# Altium footprint library Inductor.PcbLib: 1 footprints
Each footprint in its own frame and in the unit in brackets; x right, y up, seen from the top. Pads: shape width x height; smd on the part's side, far side on the other; paste and mask are expansions set on the pad; w line width, h text height; cw(c..) or ccw(c..) is an arc to the next point about the centre after c.
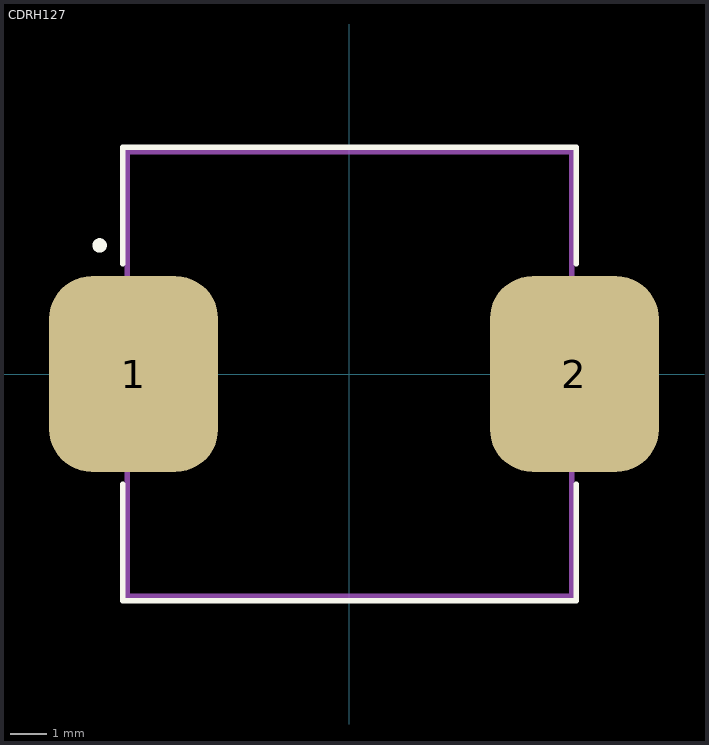
[diagram p0: the footprint, top view; thin cyan lines are the x and y axes]

## CDRH127 [mil]
pads (2):
  rrect50% 184x213 smd: 1(-235,0) 2(245,0)
Top Overlay:
  lines w6: -247,-120 -247,-247 247,-247 247,-120 ; -247,120 -247,247 247,247 247,120
  lines w7.87: -275.94,140 ccw(c-272,140) -268.06,140 ccw(c-272,140) -275.94,140
Mechanical 13:
  lines w0: -242,0 ccw(c-239,0) -236,0 ccw(c-239,0) -242,0
  lines w6: -242,-242 242,-242 242,242 -242,242 -242,0 -242,-242
3D body "step_temp.STEP": height 314.96, standoff 0, extent -236.22,-236.22 236.22,236.22